# Altium footprint library SectionE_BreakOut.PcbLib: 10 footprints
Each footprint in its own frame and in the unit in brackets; x right, y up, seen from the top. Pads: shape width x height; smd on the part's side, far side on the other; paste and mask are expansions set on the pad; w line width, h text height; cw(c..) or ccw(c..) is an arc to the next point about the centre after c.
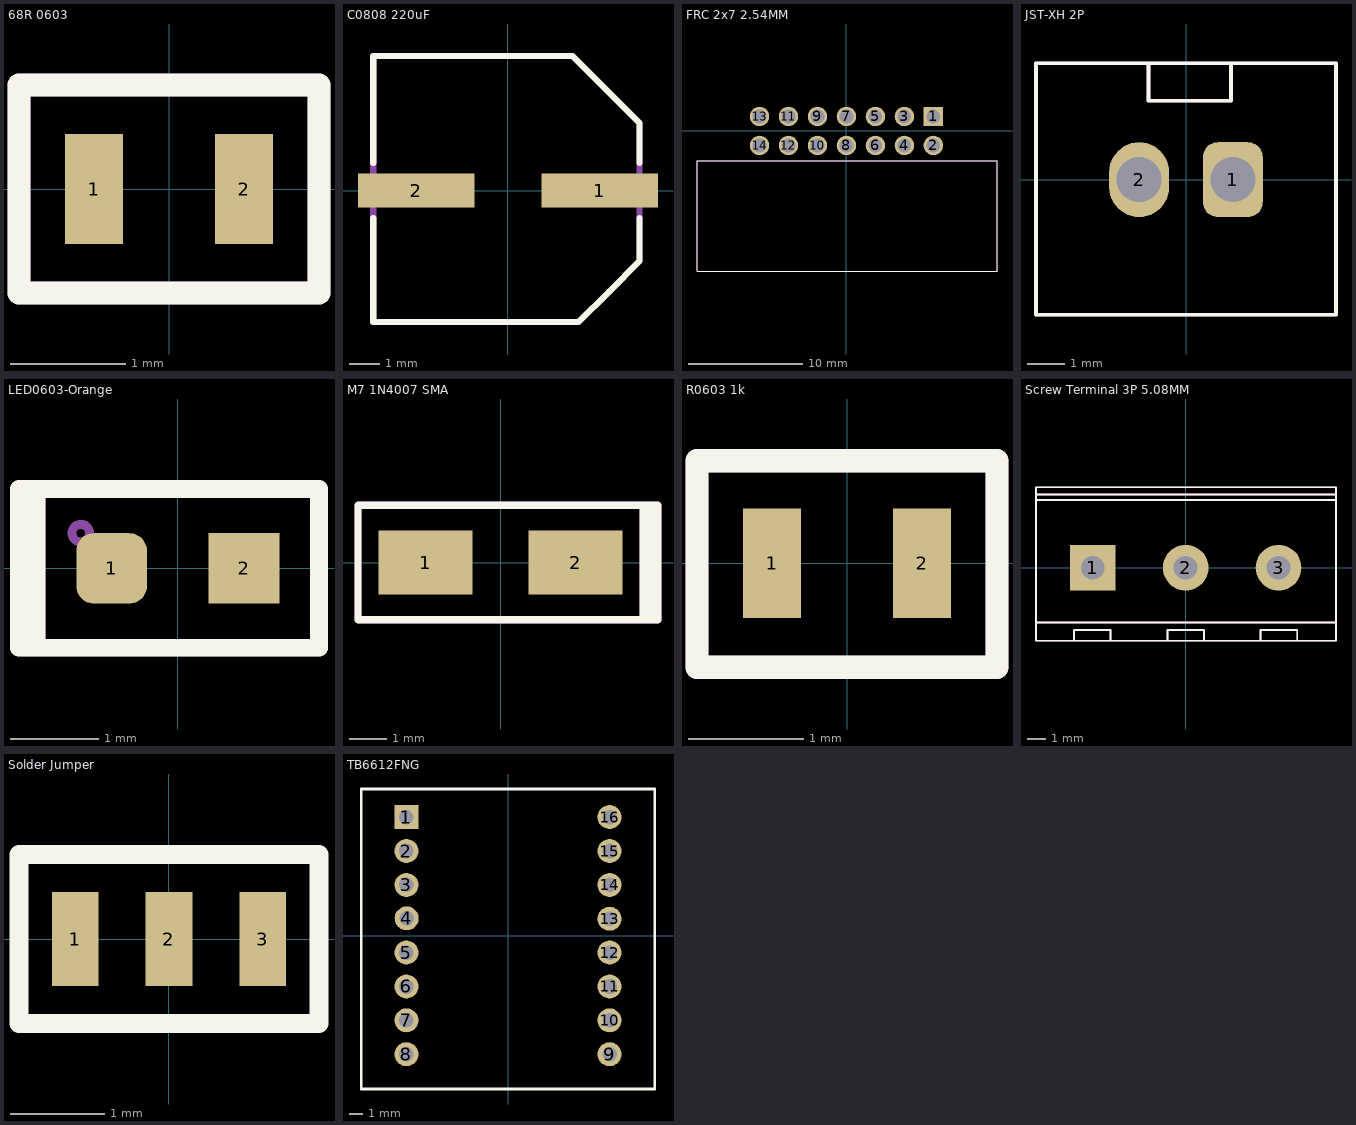
[diagram p0: the footprints below, top view; thin cyan lines are the x and y axes]

## 68R 0603 [mm]
pads (2):
  rect 0.5x0.95 smd: 1(-0.65,0) 2(0.65,0)
Top Overlay:
  lines w0.2: -1.3,-0.9 -1.3,0.9 1.3,0.9 1.3,-0.9 -1.3,-0.9
Mechanical 29:
  lines w0.2: -1.3,-0.9 -1.3,0.9 1.3,0.9 1.3,-0.9 -1.3,-0.9
  text "'.Designator'" at -0.8,-0.067 h0.7
3D body "R0603.step": height 0.45, standoff 0, extent -0.8,-0.4 0.8,0.4

## C0808 220uF [mm]
pads (2):
  rect 3.8x1.1 smd: 1(3,0) 2(-3,0)
Top Overlay:
  lines w0.2: -4.4,-0.9 -4.4,-4.3 2.3,-4.3 3.3,-3.3 4.3,-2.3 4.3,-0.9 ; -4.4,0.9 -4.4,4.4 2.1,4.4 4.3,2.2 4.3,0.9
Mechanical 29:
  lines w0.2: -4.4,-4.3 2.3,-4.3 3.3,-3.3 4.3,-2.3 4.3,2.2 2.1,4.4 -4.4,4.4 -4.4,-4.3
  text "'.Designator'" at -3.1,0.033 h0.7
3D body "User Library-SMD 8x10.step": height 8.51, standoff 0.01, extent -4.85,-4.15 4.85,4.15

## FRC 2x7 2.54MM [mm]
pads (14):
  rect 1.7x1.7 hole 1.2: 1(7.62,1.27)
  round 1.7 hole 1.2: 2(7.62,-1.27) 3(5.08,1.27) 4(5.08,-1.27) 5(2.54,1.27) 6(2.54,-1.27) 7(0,1.27) 8(0,-1.27) 9(-2.54,1.27) 10(-2.54,-1.27) 11(-5.08,1.27) 12(-5.08,-1.27) 13(-7.62,1.27) 14(-7.62,-1.27)
Top Overlay:
  lines w0.1: -13.1,-12.3 13.2,-12.3 13.2,-2.63 -13.1,-2.63 -13.1,-12.3
Mechanical 29:
  lines w0.1: -13.1,-12.3 13.2,-12.3 13.2,-2.63 -13.1,-2.63 -13.1,-12.3
  text "'.Designator'" at -3.7,-7.467 h0.7
3D body "Box Header 14P Right Angle.step": height 8.86, standoff -2.96, extent -12.72,-11.925 12.72,1.625

## JST-XH 2P [mm]
pads (2):
  rrect50% 1.6x2 hole 1.2: 1(1.25,0)
  oval 1.6x2 hole 1.2: 2(-1.25,0)
Top Overlay:
  lines w0.1: -1,3.1 -1,2.1 1.2,2.1 1.2,3.1 ; -4,-3.6 -4,3.1 4,3.1 4,-3.6 -4,-3.6
Mechanical 29:
  lines w0.1: -1,3.1 -1,2.1 1.2,2.1 1.2,3.1 ; -4,-3.6 -4,3.1 4,3.1 4,-3.6 -4,-3.6
  text "'.Designator'" at -3,-2.267 h0.7
3D body "JST-XH-A-2P.step": height 7.01, standoff -3.39, extent -3.7,-3.3 3.7,2.8

## LED0603-Orange [mm]
pads (2):
  rrect50% 0.8x0.8 smd: 1(-0.75,0)
  rect 0.8x0.8 smd: 2(0.75,0)
Top Overlay:
  rectangle: -1.8,-0.9 -1.5,1
  rectangle: -1.8,-0.9 -1.5,1
  lines w0.2: -1.8,-0.9 1.6,-0.9 ; -1.8,-0.9 -1.8,0.9 ; -1.8,-0.9 1.6,-0.9 ; -1.8,-0.9 -1.8,0.9 ; -1.8,0.9 1.6,0.9 ; -1.8,0.9 1.6,0.9 ; 1.6,-0.9 1.6,0.9 ; 1.6,-0.9 1.6,0.9
Mechanical 29:
  circle w0.1: c-1.1,0.4 r0.1
  rectangle: -1.8,-0.9 -1.5,1
  rectangle: -1.8,-0.9 -1.5,1
  lines w0.2: -1.8,-0.9 1.6,-0.9 ; -1.8,-0.9 -1.8,0.9 ; -1.8,-0.9 1.6,-0.9 ; -1.8,-0.9 -1.8,0.9 ; -1.8,0.9 1.6,0.9 ; -1.8,0.9 1.6,0.9 ; 1.6,-0.9 1.6,0.9 ; 1.6,-0.9 1.6,0.9
  text "'.Designator'" at -0.8,-0.167 h0.7
3D body "LED0603-Orange(3).step": height 0.7, standoff 0, extent -0.8,-0.4 0.8,0.4

## M7 1N4007 SMA [mm]
pads (2):
  rect 2.5x1.7 smd: 1(-2,0) 2(2,0)
Top Overlay:
  rectangle: 3.7,-1.6 4.2,1.524
  region: 3.937,1.524
  lines w0.2: -3.8,-1.524 4.2,-1.524 4.2,1.524 -3.8,1.524 -3.8,-1.524
Mechanical 29:
  rectangle: 3.7,-1.6 4.2,1.524
  region: 3.937,1.524
  lines w0.2: -3.8,-1.524 4.2,-1.524 4.2,1.524 -3.8,1.524 -3.8,-1.524
3D body "User Library-DO-214AC SMA.step": height 2.42, standoff 0.01, extent -2.6,-1.3 2.6,1.3

## R0603 1k [mm]
pads (2):
  rect 0.5x0.95 smd: 1(-0.65,0) 2(0.65,0)
Top Overlay:
  lines w0.2: -1.3,-0.9 1.3,-0.9 1.3,0.889 -1.3,0.889 -1.3,-0.9
Mechanical 29:
  lines w0.2: -1.3,-0.9 1.3,-0.9 1.3,0.889 -1.3,0.889 -1.3,-0.9
  text "'.Designator'" at -0.8,-0.067 h0.7
3D body "R0603.step": height 0.45, standoff 0, extent -0.8,-0.4 0.8,0.4

## Screw Terminal 3P 5.08MM [mm]
pads (3):
  rect 2.5x2.5 hole 1.3: 1(-5.08,0)
  round 2.5 hole 1.3: 2(0,0) 3(5.08,0)
Top Overlay:
  region: -8.1,4
  lines w0.1: -8.15,3.7 8.15,3.7 ; -8.1,-3 8.2,-3 ; -8.1,4 8.2,4 ; -6.1,-4 -6.1,-3.4 -4.1,-3.4 -4.1,-4 ; -1,-4 -1,-3.4 1,-3.4 1,-4 ; 4.1,-4 4.1,-3.4 6.1,-3.4 6.1,-4 ; -8.18,-4 -8.18,4.4 8.22,4.4 8.22,-4 -8.18,-4
Mechanical 29:
  region: -8.1,4
  lines w0.1: -8.15,3.7 8.15,3.7 ; -8.1,-3 8.2,-3 ; -8.1,4 8.2,4 ; -6.1,-4 -6.1,-3.4 -4.1,-3.4 -4.1,-4 ; -1,-4 -1,-3.4 1,-3.4 1,-4 ; 4.1,-4 4.1,-3.4 6.1,-3.4 6.1,-4 ; -8.18,-4 -8.18,4.4 8.22,4.4 8.22,-4 -8.18,-4
  text "'.Designator'" at -3.6,0.133 h0.7
3D body "Screw Terminal 3P 5.08MM.stp": height 10.01, standoff -3.49, extent -8.12,-3.8 8.12,4.2

## Solder Jumper [mm]
pads (3):
  rect 0.5x1 smd: 1(-1,0) 2(0,0) 3(1,0)
Top Overlay:
  lines w0.2: -1.6,-0.9 -1.6,0.9 1.6,0.9 1.6,-0.9 -1.6,-0.9

## TB6612FNG [mm]
pads (16):
  rect 1.8x1.8 hole 1.1: 1(-7.62,8.89)
  round 1.8 hole 1.1: 2(-7.62,6.35) 3(-7.62,3.81) 4(-7.6,1.3) 5(-7.62,-1.27) 6(-7.62,-3.81) 7(-7.62,-6.35) 8(-7.62,-8.89) 9(7.62,-8.89) 10(7.62,-6.35) 11(7.62,-3.81) 12(7.62,-1.27) 13(7.62,1.27) 14(7.62,3.81) 15(7.62,6.35) 16(7.62,8.89)
Top Overlay:
  lines w0.2: -11,-11.5 -11,11 11,11 11,-11.5 -11,-11.5
Mechanical 29:
  text "'.Designator'" at 0.1,0.333 h0.7
3D body "User Library-Motor Driver.step": height 13.55, standoff 9.97, extent -10.352,-10.69 10.554,10.29
3D body "female_header_08p.stp": height 8.51, standoff -3.19, extent -8.85,-10.285 -6.35,10.285
3D body "female_header_08p.stp": height 8.51, standoff -3.19, extent 6.35,-10.285 8.85,10.285